# Altium footprint library UniqueConnectors.PcbLib: 28 footprints (part 2 of 2)
Each footprint in its own frame and in the unit in brackets; x right, y up, seen from the top. Pads: shape width x height; smd on the part's side, far side on the other; paste and mask are expansions set on the pad; w line width, h text height; cw(c..) or ccw(c..) is an arc to the next point about the centre after c.
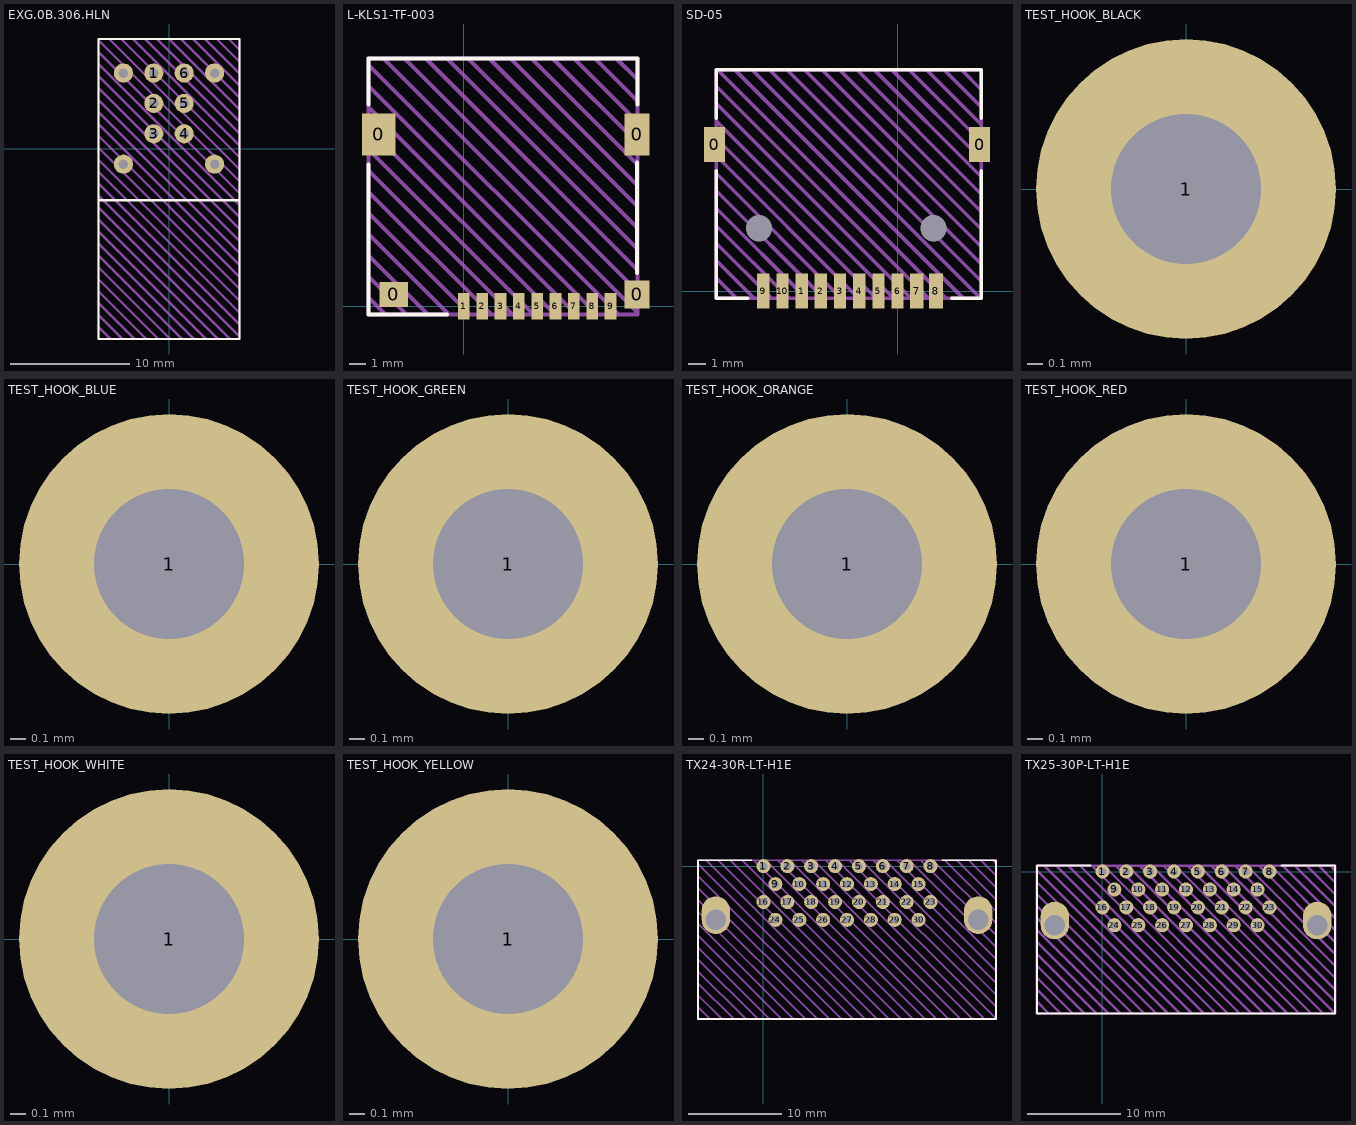
[diagram p1: the footprints below, top view; thin cyan lines are the x and y axes]

## EXG.0B.306.HLN [mm] "LEMO 0B-Series Elbow Socket"
pads (10):
  round 1.6 hole 0.8: 1(-1.27,6.35) 2(-1.27,3.81) 3(-1.27,1.27) 4(1.27,1.27) 5(1.27,3.81) 6(1.27,6.35) ""(-3.81,-1.27) ""(-3.81,6.35) ""(3.81,-1.27) ""(3.81,6.35)
Top Overlay:
  lines w0.2: -5.9,-4.3 5.9,-4.3 ; -5.9,-15.9 -5.9,9.2 5.9,9.2 5.9,-15.9 -5.9,-15.9
Top Draw:
  lines w0.2: -5.9,-14.9 -4.9,-15.9 ; -5.9,-13.9 -3.9,-15.9 ; -5.9,-12.9 -2.9,-15.9 ; -5.9,-11.9 -1.9,-15.9 ; -5.9,-10.9 -0.9,-15.9 ; -5.9,-9.9 0.1,-15.9 ; -5.9,-8.9 1.1,-15.9 ; -5.9,-7.9 2.1,-15.9 ; -5.9,-6.9 3.1,-15.9 ; -5.9,-5.9 4.1,-15.9 ; -5.9,-4.9 5.1,-15.9 ; -5.9,-3.9 5.9,-15.7 ; -5.9,-2.9 5.9,-14.7 ; -5.9,-1.9 5.9,-13.7 ; -5.9,-0.9 5.9,-12.7 ; -5.9,0.1 5.9,-11.7 ; -5.9,1.1 5.9,-10.7 ; -5.9,2.1 5.9,-9.7 ; -5.9,3.1 5.9,-8.7 ; -5.9,4.1 5.9,-7.7 ; -5.9,5.1 5.9,-6.7 ; -5.9,6.1 5.9,-5.7 ; -5.9,7.1 5.9,-4.7 ; -5.9,8.1 5.9,-3.7 ; -5.9,9.1 5.9,-2.7 ; -5,9.2 5.9,-1.7 ; -4,9.2 5.9,-0.7 ; -3,9.2 5.9,0.3 ; -2,9.2 5.9,1.3 ; -1,9.2 5.9,2.3 ; 0,9.2 5.9,3.3 ; 1,9.2 5.9,4.3 ; 2,9.2 5.9,5.3 ; 3,9.2 5.9,6.3 ; 4,9.2 5.9,7.3 ; 5,9.2 5.9,8.3 ; -5.9,-15.9 -5.9,9.2 5.9,9.2 5.9,-15.9 -5.9,-15.9
3D body "EXG_0B_306_HLN.step": height 12.95, standoff -3.15, extent -5.921,-15.696 5.921,9.144

## L-KLS1-TF-003 [mm] "uSD Card Slot"
pads (13):
  rect 2x2.5 smd: 0(-5.1,10.3)
  rect 1.7x1.5 smd: 0(-4.2,0.7)
  rect 1.5x1.7 smd: 0(10.4,0.7)
  rect 1.5x2.5 smd: 0(10.4,10.3)
  rect 0.7x1.6 smd: 1(0,0) 2(1.1,0) 3(2.2,0) 4(3.3,0) 5(4.4,0) 6(5.5,0) 7(6.6,0) 8(7.7,0) 9(8.8,0)
Top Overlay:
  lines w0.25: -5.715,8.5 -5.715,-0.508 -1.016,-0.508 ; -5.715,12.1 -5.715,14.859 10.414,14.859 10.414,12.1 ; 10.4,2 10.4,8.6
Top Draw:
  lines w0.25: -5.715,0.508 -4.699,-0.508 ; -5.715,1.778 -3.429,-0.508 ; -5.715,3.048 -2.159,-0.508 ; -5.715,4.318 -0.889,-0.508 ; -5.715,5.588 0.381,-0.508 ; -5.715,6.858 1.651,-0.508 ; -5.715,8.128 2.921,-0.508 ; -5.715,9.398 4.191,-0.508 ; -5.715,10.668 5.461,-0.508 ; -5.715,11.938 6.731,-0.508 ; -5.715,13.208 8.001,-0.508 ; -5.715,14.478 9.271,-0.508 ; -4.826,14.859 10.414,-0.381 ; -3.556,14.859 10.414,0.889 ; -2.286,14.859 10.414,2.159 ; -1.016,14.859 10.414,3.429 ; 0.254,14.859 10.414,4.699 ; 1.524,14.859 10.414,5.969 ; 2.794,14.859 10.414,7.239 ; 4.064,14.859 10.414,8.509 ; 5.334,14.859 10.414,9.779 ; 6.604,14.859 10.414,11.049 ; 7.874,14.859 10.414,12.319 ; 9.144,14.859 10.414,13.589 ; -5.715,-0.508 10.414,-0.508 10.414,14.859 -5.715,14.859 -5.715,-0.508
Top Info:
  text "'.Comment'" at -2.911,-2.629 h1.25
3D body "MicroSD_Socket.STEP": height 1.95, standoff -0.5, extent -5.714,-0.34 10.386,16.707

## SD-05 [mm] "uSD Card Slot"
pads (14):
  rect 1.2x2 smd: 0(-10.5,8.4) 0(4.7,8.4)
  rect 0.7x2 smd: 1(-5.5,0) 2(-4.4,0) 3(-3.3,0) 4(-2.2,0) 5(-1.1,0) 6(0,0) 9(-7.7,0) 10(-6.6,0)
  rect 0.8x2 smd: 7(1.1,0) 8(2.2,0)
  round 0 hole 1.5 unplated: ""(-7.95,3.6) ""(2.05,3.6)
Top Overlay:
  lines w0.2: -10.4,6.9 -10.4,-0.4 -8.6,-0.4 ; -10.4,9.9 -10.4,12.7 4.8,12.7 4.8,9.9 ; 3.1,-0.4 4.8,-0.4 4.8,6.9
Top Draw:
  lines w0.2: -10.4,0.75 -9.25,-0.4 ; -10.4,1.75 -8.25,-0.4 ; -10.4,2.75 -7.25,-0.4 ; -10.4,3.75 -6.25,-0.4 ; -10.4,4.75 -5.25,-0.4 ; -10.4,5.75 -4.25,-0.4 ; -10.4,6.75 -3.25,-0.4 ; -10.4,7.75 -2.25,-0.4 ; -10.4,8.75 -1.25,-0.4 ; -10.4,9.75 -0.25,-0.4 ; -10.4,10.75 0.75,-0.4 ; -10.4,11.75 1.75,-0.4 ; -10.35,12.7 2.75,-0.4 ; -9.35,12.7 3.75,-0.4 ; -8.35,12.7 4.75,-0.4 ; -7.35,12.7 4.8,0.55 ; -6.35,12.7 4.8,1.55 ; -5.35,12.7 4.8,2.55 ; -4.35,12.7 4.8,3.55 ; -3.35,12.7 4.8,4.55 ; -2.35,12.7 4.8,5.55 ; -1.35,12.7 4.8,6.55 ; -0.35,12.7 4.8,7.55 ; 0.65,12.7 4.8,8.55 ; 1.65,12.7 4.8,9.55 ; 2.65,12.7 4.8,10.55 ; 3.65,12.7 4.8,11.55 ; -10.4,-0.4 -10.4,12.7 4.8,12.7 4.8,-0.4 -10.4,-0.4
Top Info:
  text "'.Comment'" at -8.011,-4.129 h1.25
3D body "Socket Micro SD.STEP": height 1.87, standoff -0.2, extent -10.4,-0.356 4.8,12.698

## TEST_HOOK_BLACK [mm]
pads (1):
  round 2 hole 1: 1(0,0)
3D body "TestHookBlack.step": height 6.12, standoff -3, extent -1.881,-1.749 1.967,1.749

## TEST_HOOK_BLUE [mm]
pads (1):
  round 2 hole 1: 1(0,0)
3D body "TestHookBlue.step": height 6.12, standoff -3, extent -1.881,-1.749 1.967,1.749

## TEST_HOOK_GREEN [mm]
pads (1):
  round 2 hole 1: 1(0,0)
3D body "TestHookGreen.step": height 6.12, standoff -3, extent -1.881,-1.749 1.967,1.749

## TEST_HOOK_ORANGE [mm]
pads (1):
  round 2 hole 1: 1(0,0)
3D body "TestHookOrange.step": height 6.12, standoff -3, extent -1.881,-1.749 1.967,1.749

## TEST_HOOK_RED [mm]
pads (1):
  round 2 hole 1: 1(0,0)
3D body "TestHookRed.step": height 6.12, standoff -3, extent -1.881,-1.749 1.967,1.749

## TEST_HOOK_WHITE [mm]
pads (1):
  round 2 hole 1: 1(0,0)
3D body "TestHookWhite.step": height 6.12, standoff -3, extent -1.881,-1.749 1.967,1.749

## TEST_HOOK_YELLOW [mm]
pads (1):
  round 2 hole 1: 1(0,0)
3D body "TestHookYellow.step": height 6.12, standoff -3, extent -1.881,-1.749 1.967,1.749

## TX24-30R-LT-H1E [mm] "JAE 30-pin R/A Board-to-Board connector"
pads (32):
  round 1.5 hole 0.8: 1(0,0) 2(2.54,0) 3(5.08,0) 4(7.62,0) 5(10.16,0) 6(12.7,0) 7(15.24,0) 8(17.78,0) 9(1.27,-1.905) 10(3.81,-1.905) 11(6.35,-1.905) 12(8.89,-1.905) 13(11.43,-1.905) 14(13.97,-1.905) 15(16.51,-1.905) 16(0,-3.81) 17(2.54,-3.81) 18(5.08,-3.81) 19(7.62,-3.81) 20(10.16,-3.81) 21(12.7,-3.81) 22(15.24,-3.81) 23(17.78,-3.81) 24(1.27,-5.715) 25(3.81,-5.715) 26(6.35,-5.715) 27(8.89,-5.715) 28(11.43,-5.715) 29(13.97,-5.715) 30(16.51,-5.715)
  oval 3x4 hole 2.2 copper offset 0,0.5: ""(-5.08,-5.715) ""(22.86,-5.715)
Top Overlay:
  lines w0.2: -1.27,0.635 -6.985,0.635 -6.985,-16.256 24.765,-16.256 24.765,0.635 19.05,0.635
Top Draw:
  lines w0.2: -6.985,-14.986 -5.715,-16.256 ; -6.985,-13.716 -4.445,-16.256 ; -6.985,-12.446 -3.175,-16.256 ; -6.985,-11.176 -1.905,-16.256 ; -6.985,-9.906 -0.635,-16.256 ; -6.985,-8.636 0.635,-16.256 ; -6.985,-7.366 1.905,-16.256 ; -6.985,-6.096 3.175,-16.256 ; -6.985,-4.826 4.445,-16.256 ; -6.985,-3.556 5.715,-16.256 ; -6.985,-2.286 6.985,-16.256 ; -6.985,-1.016 8.255,-16.256 ; -6.985,0.254 9.525,-16.256 ; -6.096,0.635 10.795,-16.256 ; -4.826,0.635 12.065,-16.256 ; -3.556,0.635 13.335,-16.256 ; -2.286,0.635 14.605,-16.256 ; -1.016,0.635 15.875,-16.256 ; 0.254,0.635 17.145,-16.256 ; 1.524,0.635 18.415,-16.256 ; 2.794,0.635 19.685,-16.256 ; 4.064,0.635 20.955,-16.256 ; 5.334,0.635 22.225,-16.256 ; 6.604,0.635 23.495,-16.256 ; 7.874,0.635 24.765,-16.256 ; 9.144,0.635 24.765,-14.986 ; 10.414,0.635 24.765,-13.716 ; 11.684,0.635 24.765,-12.446 ; 12.954,0.635 24.765,-11.176 ; 14.224,0.635 24.765,-9.906 ; 15.494,0.635 24.765,-8.636 ; 16.764,0.635 24.765,-7.366 ; 18.034,0.635 24.765,-6.096 ; 19.304,0.635 24.765,-4.826 ; 20.574,0.635 24.765,-3.556 ; 21.844,0.635 24.765,-2.286 ; 23.114,0.635 24.765,-1.016 ; 24.384,0.635 24.765,0.254 ; 24.765,-16.256 24.765,0.635 -6.985,0.635 -6.985,-16.256 24.765,-16.256
3D body "TX24-30R-LT-H1E-R2.STEP": height 9, standoff -2.8, extent -6.96,-16.265 24.74,0.635

## TX25-30P-LT-H1E [mm] "JAE 30-pin R/A Board-to-Board connector"
pads (32):
  round 1.5 hole 0.8: 1(0,0) 2(2.54,0) 3(5.08,0) 4(7.62,0) 5(10.16,0) 6(12.7,0) 7(15.24,0) 8(17.78,0) 9(1.27,-1.905) 10(3.81,-1.905) 11(6.35,-1.905) 12(8.89,-1.905) 13(11.43,-1.905) 14(13.97,-1.905) 15(16.51,-1.905) 16(0,-3.81) 17(2.54,-3.81) 18(5.08,-3.81) 19(7.62,-3.81) 20(10.16,-3.81) 21(12.7,-3.81) 22(15.24,-3.81) 23(17.78,-3.81) 24(1.27,-5.715) 25(3.81,-5.715) 26(6.35,-5.715) 27(8.89,-5.715) 28(11.43,-5.715) 29(13.97,-5.715) 30(16.51,-5.715)
  oval 3x4 hole 2.2 copper offset 0,0.5: ""(-5.08,-5.715) ""(22.86,-5.715)
Top Overlay:
  lines w0.2: -1.27,0.635 -6.985,0.635 -6.985,-15.113 24.765,-15.113 24.765,0.635 19.05,0.635
Top Draw:
  lines w0.25: -6.985,-13.843 -5.715,-15.113 ; -6.985,-12.573 -4.445,-15.113 ; -6.985,-11.303 -3.175,-15.113 ; -6.985,-10.033 -1.905,-15.113 ; -6.985,-8.763 -0.635,-15.113 ; -6.985,-7.493 0.635,-15.113 ; -6.985,-6.223 1.905,-15.113 ; -6.985,-4.953 3.175,-15.113 ; -6.985,-3.683 4.445,-15.113 ; -6.985,-2.413 5.715,-15.113 ; -6.985,-1.143 6.985,-15.113 ; -6.985,0.127 8.255,-15.113 ; -6.223,0.635 9.525,-15.113 ; -4.953,0.635 10.795,-15.113 ; -3.683,0.635 12.065,-15.113 ; -2.413,0.635 13.335,-15.113 ; -1.143,0.635 14.605,-15.113 ; 0.127,0.635 15.875,-15.113 ; 1.397,0.635 17.145,-15.113 ; 2.667,0.635 18.415,-15.113 ; 3.937,0.635 19.685,-15.113 ; 5.207,0.635 20.955,-15.113 ; 6.477,0.635 22.225,-15.113 ; 7.747,0.635 23.495,-15.113 ; 9.017,0.635 24.765,-15.113 ; 10.287,0.635 24.765,-13.843 ; 11.557,0.635 24.765,-12.573 ; 12.827,0.635 24.765,-11.303 ; 14.097,0.635 24.765,-10.033 ; 15.367,0.635 24.765,-8.763 ; 16.637,0.635 24.765,-7.493 ; 17.907,0.635 24.765,-6.223 ; 19.177,0.635 24.765,-4.953 ; 20.447,0.635 24.765,-3.683 ; 21.717,0.635 24.765,-2.413 ; 22.987,0.635 24.765,-1.143 ; 24.257,0.635 24.765,0.127 ; 24.765,-15.113 -6.985,-15.113 -6.985,0.635 24.765,0.635 24.765,-15.113
3D body "TX25-30P-LT-H1E-R1.step": height 9, standoff -2.8, extent -6.935,-15.165 24.715,0.635